# EAGLE library part DRV8876 (library DRV8876 - H-Bridge Motor Driver)
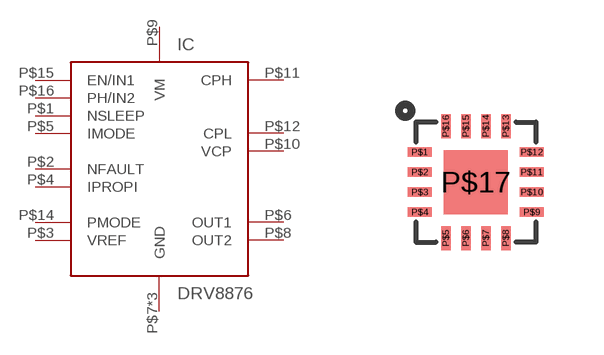
[diagram p0: symbol with the pads of VQFN16; footprint VQFN16]

Designator prefix IC

## DRV8876  [VQFN16]
P$1  NSLEEP  in
P$2  NFAULT  out
P$3  VREF  in
P$4  IPROPI  out
P$5  IMODE  in
P$6  OUT1  out
P$7  GND  pwr
P$8  OUT2  out
P$9  VM  pwr
P$10  VCP  pwr
P$11  CPH  pwr
P$12  CPL  pwr
P$13  GND  pwr
P$14  PMODE  in
P$15  EN/IN1  in
P$16  PH/IN2  in
P$17  GND  pwr

## Footprint VQFN16 (pad centres in mm)
smd 0.6 x 0.24: P$1 -1.4,0.75; P$2 -1.4,0.25; P$3 -1.4,-0.25; P$4 -1.4,-0.75; P$9 1.4,-0.75; P$10 1.4,-0.25; P$11 1.4,0.25; P$12 1.4,0.75
smd 0.24 x 0.6: P$5 -0.75,-1.4; P$6 -0.25,-1.4; P$7 0.25,-1.4; P$8 0.75,-1.4; P$13 0.75,1.4; P$14 0.25,1.4; P$15 -0.25,1.4; P$16 -0.75,1.4
smd 1.6 x 1.6: P$17 0,0